# EAGLE library part NRF24L01+ (library MTS-OTR_Custom)
2.4GHz Transceiver
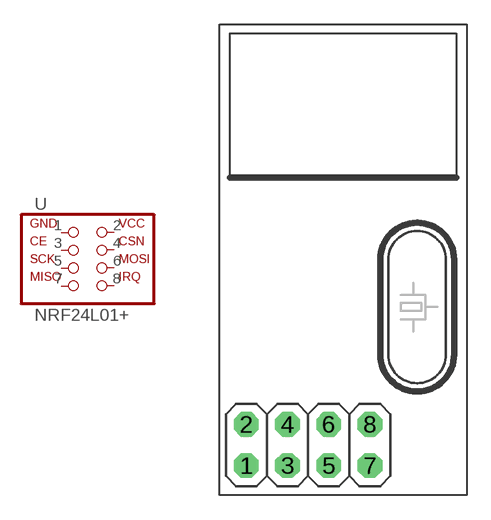
[diagram p9: symbol with the pads of NRF24L01+; footprint NRF24L01+]

Designator prefix -

## NRF24L01+  [NRF24L01+]
1  1  pas
2  2  pas
3  3  pas
4  4  pas
5  5  pas
6  6  pas
7  7  pas
8  8  pas

## Footprint NRF24L01+ (pad centres in mm)
NRF24L01+ module
drill 0.7 pad 1.524 octagon: 1 -5.08,-12.7; 2 -5.08,-10.16; 3 -2.54,-12.7; 4 -2.54,-10.16; 5 0,-12.7; 6 0,-10.16; 7 2.54,-12.7; 8 2.54,-10.16